# Altium footprint library display-lcd.PCBLIB: 16 footprints
Each footprint in its own frame and in the unit in brackets; x right, y up, seen from the top. Pads: shape width x height; smd on the part's side, far side on the other; paste and mask are expansions set on the pad; w line width, h text height; cw(c..) or ccw(c..) is an arc to the next point about the centre after c.
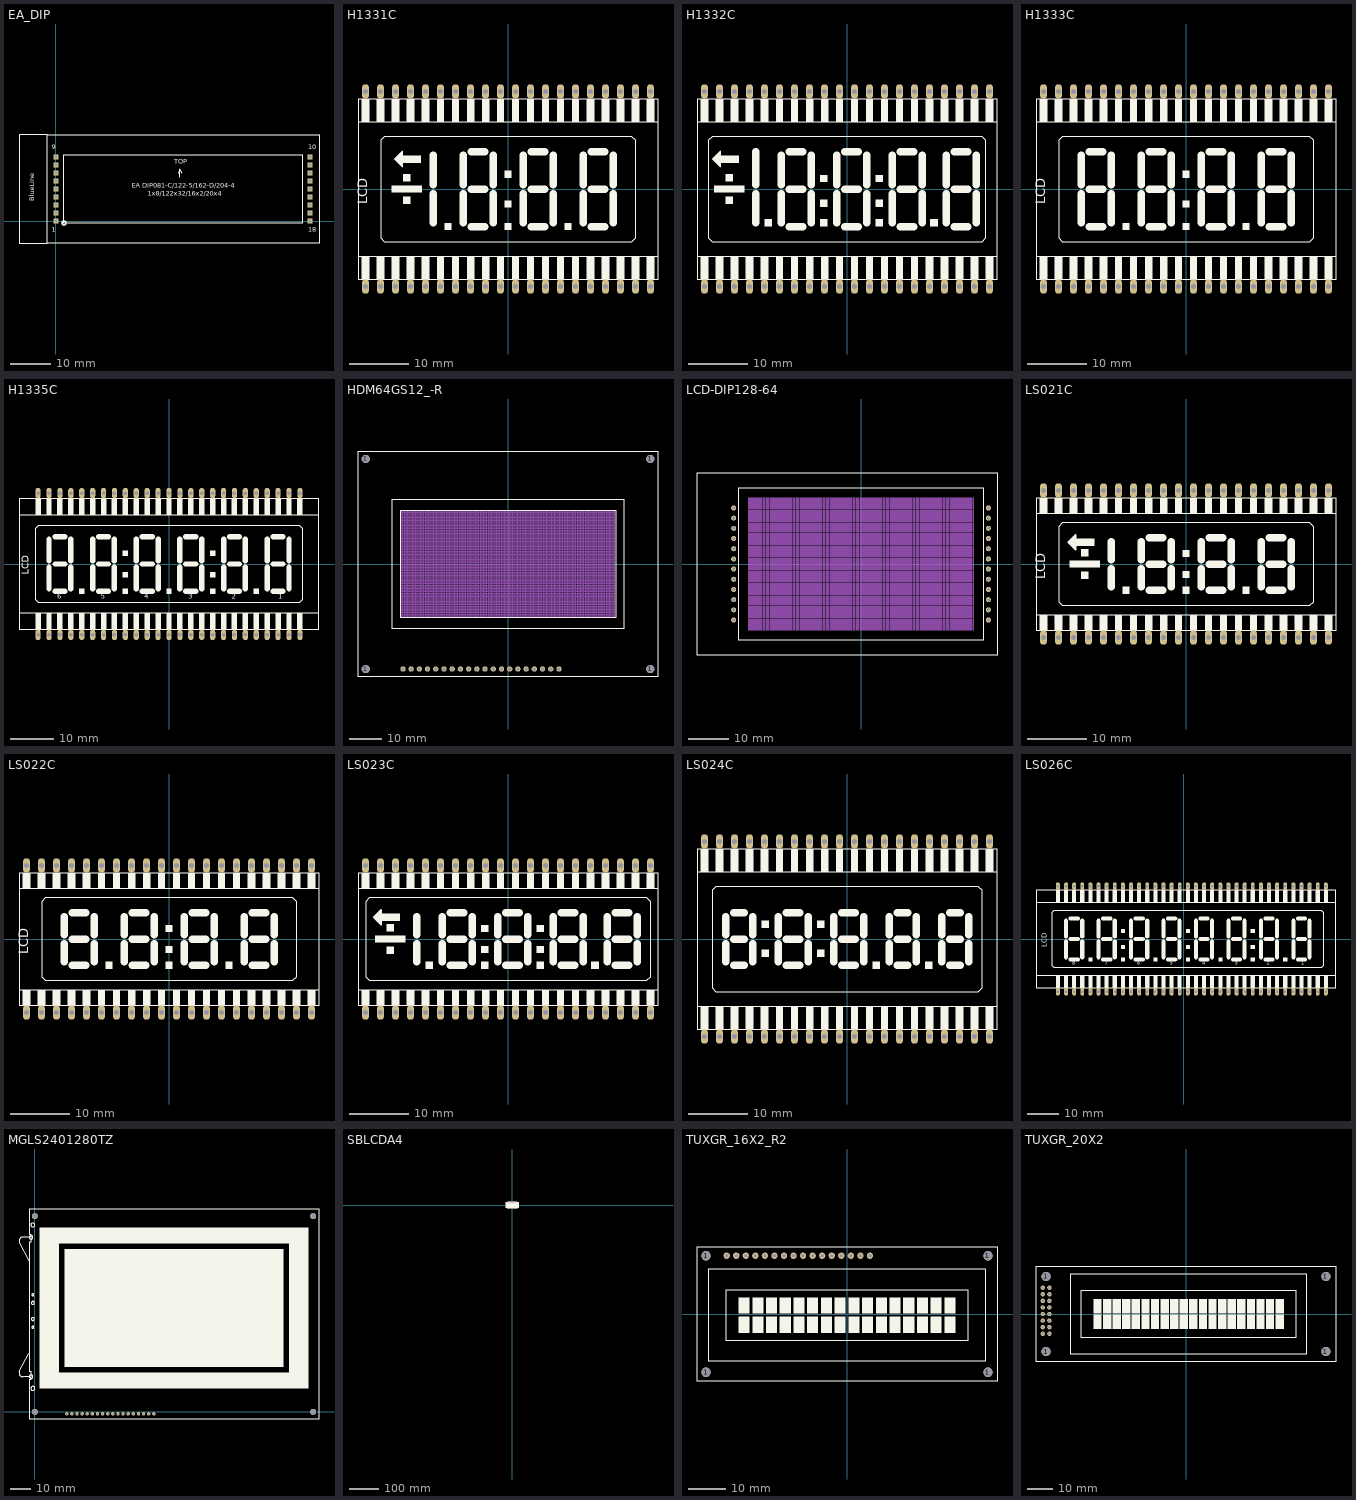
[diagram p0: the footprints below, top view; thin cyan lines are the x and y axes]

## EA_DIP [mil]
pads (18):
  rect 50x50 hole 32: 1(0,0) 2(0,78.74) 3(0,157.48) 4(0,236.22) 5(0,314.96) 6(0,393.7) 7(0,472.44) 8(0,551.18) 9(0,629.92) 10(2500,629.92) 11(2500,551.18) 12(2500,472.44) 13(2500,393.7) 14(2500,314.96) 15(2500,236.22) 16(2500,157.48) 17(2500,78.74) 18(2500,0)
Top Overlay:
  circle w16: c78.74,-19.69 r19.69
  lines w5: 1200.79,472.44 1220.47,511.81 ; 1220.47,433.07 1220.47,511.81 ; 1240.16,472.44 1220.47,511.81
  lines w10: -88.58,-216.54 -88.58,846.46 ; -88.58,-216.54 2588.58,-216.54 2588.58,846.46 -88.58,846.46 ; -88.58,-216.54 -364.17,-216.54 -364.17,846.46 -88.58,846.46 ; 78.74,-19.69 78.74,649.61 2421.26,649.61 2421.26,-19.69 78.74,-19.69
  text "EA DIP081-C/122-5/162-D/204-4" at 748.03,314.96 h77.5
  text "1x8/122x32/16x2/20x4" at 905.51,236.22 h77.5
  text "TOP" at 1161.42,551.18 h77.5
  text "1" at -39.37,-118.11 h77.5
  text "9" at -39.37,688.98 h77.5
  text "10" at 2480.32,688.98 h77.5
  text "18" at 2480.32,-118.11 h77.5
  text "BlueLine" at -196.85,196.85 h77.5

## H1331C [mil]
pads (40):
  oval 48x96 hole 32: 1(-950,-650) 2(-850,-650) 3(-750,-650) 4(-650,-650) 5(-550,-650) 6(-450,-650) 7(-350,-650) 8(-250,-650) 9(-150,-650) 10(-50,-650) 11(50,-650) 12(150,-650) 13(250,-650) 14(350,-650) 15(450,-650) 16(550,-650) 17(650,-650) 18(750,-650) 19(850,-650) 20(950,-650) 21(950,650) 22(850,650) 23(750,650) 24(650,650) 25(550,650) 26(450,650) 27(350,650) 28(250,650) 29(150,650) 30(50,650) 31(-50,650) 32(-150,650) 33(-250,650) 34(-350,650) 35(-450,650) 36(-550,650) 37(-650,650) 38(-750,650) 39(-850,650) 40(-950,650)
Top Overlay:
  rectangle: -975,-600 -925,-450
  rectangle: -875,-600 -825,-450
  rectangle: -775,-600 -725,-450
  rectangle: -675,-600 -625,-450
  rectangle: -575,-600 -525,-450
  rectangle: -475,-600 -425,-450
  rectangle: -375,-600 -325,-450
  rectangle: -275,-600 -225,-450
  rectangle: -175,-600 -125,-450
  rectangle: -75,-600 -25,-450
  rectangle: 25,-600 75,-450
  rectangle: 125,-600 175,-450
  rectangle: 225,-600 275,-450
  rectangle: 325,-600 375,-450
  rectangle: 425,-600 475,-450
  rectangle: 525,-600 575,-450
  rectangle: 625,-600 675,-450
  rectangle: 725,-600 775,-450
  rectangle: 825,-600 875,-450
  rectangle: 925,-600 975,-450
  rectangle: 925,450 975,600
  rectangle: 825,450 875,600
  rectangle: 725,450 775,600
  rectangle: 625,450 675,600
  rectangle: 525,450 575,600
  rectangle: 425,450 475,600
  rectangle: 325,450 375,600
  rectangle: 225,450 275,600
  rectangle: 125,450 175,600
  rectangle: 25,450 75,600
  rectangle: -75,450 -25,600
  rectangle: -175,450 -125,600
  rectangle: -275,450 -225,600
  rectangle: -375,450 -325,600
  rectangle: -475,450 -425,600
  rectangle: -575,450 -525,600
  rectangle: -675,450 -625,600
  rectangle: -775,450 -725,600
  rectangle: -875,450 -825,600
  rectangle: -975,450 -925,600
  rectangle: -775,-25 -575,25
  rectangle: -700,50 -650,100
  rectangle: -700,-100 -650,-50
  rectangle: -425,-275 -375,-225
  rectangle: -25,-275 25,-225
  rectangle: -25,-125 25,-75
  rectangle: -25,75 25,125
  rectangle: 375,-275 425,-225
  rectangle: -750,195 -730,205
  rectangle: -745,205 -730,210
  rectangle: -740,210 -730,215
  rectangle: -735,215 -730,220
  rectangle: -745,190 -730,195
  rectangle: -740,185 -730,190
  rectangle: -735,180 -730,185
  rectangle: -725,225 -705,235
  rectangle: -715,235 -705,240
  rectangle: -725,165 -705,175
  rectangle: -715,160 -705,165
  rectangle: -730,175 -580,225
  lines w6: -1000,-450 -1000,-600 1000,-600 1000,-450 ; -1000,-450 1000,-450 ; -1000,-450 -1000,450 ; -1000,450 -1000,600 1000,600 1000,450 ; -1000,450 1000,450 ; 1000,-450 1000,450 ; -850,-325 -850,325 -825,350 825,350 850,325 850,-325 825,-350 -825,-350 -850,-325
  lines w12: -755,200 -705,250 -705,150 -755,200
  lines w50: -500,-225 -500,-30 ; -500,30 -500,225 ; -300,-225 -300,-30 ; -300,30 -300,225 ; -245,-250 -155,-250 ; -245,0 -155,0 ; -245,250 -155,250 ; -100,-225 -100,-30 ; -100,30 -100,225 ; 100,-225 100,-30 ; 100,30 100,225 ; 155,-250 245,-250 ; 155,0 245,0 ; 155,250 245,250 ; 300,-225 300,-30 ; 300,30 300,225 ; 500,-225 500,-30 ; 500,30 500,225 ; 555,-250 645,-250 ; 555,0 645,0 ; 555,250 645,250 ; 700,-225 700,-30 ; 700,30 700,225
  text "LCD" at -915,-100 h108.5

## H1332C [mil]
pads (40):
  oval 48x96 hole 32: 1(-950,-650) 2(-850,-650) 3(-750,-650) 4(-650,-650) 5(-550,-650) 6(-450,-650) 7(-350,-650) 8(-250,-650) 9(-150,-650) 10(-50,-650) 11(50,-650) 12(150,-650) 13(250,-650) 14(350,-650) 15(450,-650) 16(550,-650) 17(650,-650) 18(750,-650) 19(850,-650) 20(950,-650) 21(950,650) 22(850,650) 23(750,650) 24(650,650) 25(550,650) 26(450,650) 27(350,650) 28(250,650) 29(150,650) 30(50,650) 31(-50,650) 32(-150,650) 33(-250,650) 34(-350,650) 35(-450,650) 36(-550,650) 37(-650,650) 38(-750,650) 39(-850,650) 40(-950,650)
Top Overlay:
  rectangle: -975,-600 -925,-450
  rectangle: -875,-600 -825,-450
  rectangle: -775,-600 -725,-450
  rectangle: -675,-600 -625,-450
  rectangle: -575,-600 -525,-450
  rectangle: -475,-600 -425,-450
  rectangle: -375,-600 -325,-450
  rectangle: -275,-600 -225,-450
  rectangle: -175,-600 -125,-450
  rectangle: -75,-600 -25,-450
  rectangle: 25,-600 75,-450
  rectangle: 125,-600 175,-450
  rectangle: 225,-600 275,-450
  rectangle: 325,-600 375,-450
  rectangle: 425,-600 475,-450
  rectangle: 525,-600 575,-450
  rectangle: 625,-600 675,-450
  rectangle: 725,-600 775,-450
  rectangle: 825,-600 875,-450
  rectangle: 925,-600 975,-450
  rectangle: 925,450 975,600
  rectangle: 825,450 875,600
  rectangle: 725,450 775,600
  rectangle: 625,450 675,600
  rectangle: 525,450 575,600
  rectangle: 425,450 475,600
  rectangle: 325,450 375,600
  rectangle: 225,450 275,600
  rectangle: 125,450 175,600
  rectangle: 25,450 75,600
  rectangle: -75,450 -25,600
  rectangle: -175,450 -125,600
  rectangle: -275,450 -225,600
  rectangle: -375,450 -325,600
  rectangle: -475,450 -425,600
  rectangle: -575,450 -525,600
  rectangle: -675,450 -625,600
  rectangle: -775,450 -725,600
  rectangle: -875,450 -825,600
  rectangle: -975,450 -925,600
  rectangle: -885,-25 -685,25
  rectangle: -810,50 -760,100
  rectangle: -810,-100 -760,-50
  rectangle: -550,-250 -500,-200
  rectangle: 190,-250 240,-200
  rectangle: 190,-120 240,-70
  rectangle: 190,45 240,95
  rectangle: 555,-250 605,-200
  rectangle: -890,195 -870,205
  rectangle: -885,205 -870,210
  rectangle: -880,210 -870,215
  rectangle: -875,215 -870,220
  rectangle: -885,190 -870,195
  rectangle: -880,185 -870,190
  rectangle: -875,180 -870,185
  rectangle: -865,225 -845,235
  rectangle: -855,235 -845,240
  rectangle: -865,165 -845,175
  rectangle: -855,160 -845,165
  rectangle: -870,175 -720,225
  rectangle: -180,-250 -130,-200
  rectangle: -180,-120 -130,-70
  rectangle: -180,45 -130,95
  lines w6: -1000,-450 -1000,-600 1000,-600 1000,-450 ; -1000,-450 1000,-450 ; -1000,-450 -1000,450 ; -1000,450 -1000,600 1000,600 1000,450 ; -1000,450 1000,450 ; 1000,-450 1000,450 ; -925,-325 -925,325 -900,350 900,350 925,325 925,-325 900,-350 -900,-350 -925,-325
  lines w12: -895,200 -845,250 -845,150 -895,200
  lines w50: -610,-225 -610,-30 ; -610,30 -610,250 ; -440,-225 -440,-30 ; -440,30 -440,225 ; -385,-250 -295,-250 ; -385,0 -295,0 ; -385,250 -295,250 ; -240,-225 -240,-30 ; -240,30 -240,225 ; -70,-225 -70,-30 ; -70,30 -70,225 ; -15,-250 75,-250 ; -15,0 75,0 ; -15,250 75,250 ; 130,-225 130,-30 ; 130,30 130,225 ; 300,-225 300,-30 ; 300,30 300,225 ; 355,-250 445,-250 ; 355,0 445,0 ; 355,250 445,250 ; 500,-225 500,-30 ; 500,30 500,225 ; 660,-225 660,-30 ; 660,30 660,225 ; 715,-250 805,-250 ; 715,0 805,0 ; 715,250 805,250 ; 860,-225 860,-30 ; 860,30 860,225

## H1333C [mil]
pads (40):
  oval 48x96 hole 32: 1(-950,-650) 2(-850,-650) 3(-750,-650) 4(-650,-650) 5(-550,-650) 6(-450,-650) 7(-350,-650) 8(-250,-650) 9(-150,-650) 10(-50,-650) 11(50,-650) 12(150,-650) 13(250,-650) 14(350,-650) 15(450,-650) 16(550,-650) 17(650,-650) 18(750,-650) 19(850,-650) 20(950,-650) 21(950,650) 22(850,650) 23(750,650) 24(650,650) 25(550,650) 26(450,650) 27(350,650) 28(250,650) 29(150,650) 30(50,650) 31(-50,650) 32(-150,650) 33(-250,650) 34(-350,650) 35(-450,650) 36(-550,650) 37(-650,650) 38(-750,650) 39(-850,650) 40(-950,650)
Top Overlay:
  rectangle: -975,-600 -925,-450
  rectangle: -875,-600 -825,-450
  rectangle: -775,-600 -725,-450
  rectangle: -675,-600 -625,-450
  rectangle: -575,-600 -525,-450
  rectangle: -475,-600 -425,-450
  rectangle: -375,-600 -325,-450
  rectangle: -275,-600 -225,-450
  rectangle: -175,-600 -125,-450
  rectangle: -75,-600 -25,-450
  rectangle: 25,-600 75,-450
  rectangle: 125,-600 175,-450
  rectangle: 225,-600 275,-450
  rectangle: 325,-600 375,-450
  rectangle: 425,-600 475,-450
  rectangle: 525,-600 575,-450
  rectangle: 625,-600 675,-450
  rectangle: 725,-600 775,-450
  rectangle: 825,-600 875,-450
  rectangle: 925,-600 975,-450
  rectangle: 925,450 975,600
  rectangle: 825,450 875,600
  rectangle: 725,450 775,600
  rectangle: 625,450 675,600
  rectangle: 525,450 575,600
  rectangle: 425,450 475,600
  rectangle: 325,450 375,600
  rectangle: 225,450 275,600
  rectangle: 125,450 175,600
  rectangle: 25,450 75,600
  rectangle: -75,450 -25,600
  rectangle: -175,450 -125,600
  rectangle: -275,450 -225,600
  rectangle: -375,450 -325,600
  rectangle: -475,450 -425,600
  rectangle: -575,450 -525,600
  rectangle: -675,450 -625,600
  rectangle: -775,450 -725,600
  rectangle: -875,450 -825,600
  rectangle: -975,450 -925,600
  rectangle: -425,-275 -375,-225
  rectangle: -25,-275 25,-225
  rectangle: -25,-125 25,-75
  rectangle: -25,75 25,125
  rectangle: 375,-275 425,-225
  lines w6: -1000,-450 -1000,-600 1000,-600 1000,-450 ; -1000,-450 1000,-450 ; -1000,-450 -1000,450 ; -1000,450 -1000,600 1000,600 1000,450 ; -1000,450 1000,450 ; 1000,-450 1000,450 ; -850,-325 -850,325 -825,350 825,350 850,325 850,-325 825,-350 -825,-350 -850,-325
  lines w50: -700,-225 -700,-30 ; -700,30 -700,225 ; -645,-250 -555,-250 ; -645,0 -555,0 ; -645,250 -555,250 ; -500,-225 -500,-30 ; -500,30 -500,225 ; -300,-225 -300,-30 ; -300,30 -300,225 ; -245,-250 -155,-250 ; -245,0 -155,0 ; -245,250 -155,250 ; -100,-225 -100,-30 ; -100,30 -100,225 ; 100,-225 100,-30 ; 100,30 100,225 ; 155,-250 245,-250 ; 155,0 245,0 ; 155,250 245,250 ; 300,-225 300,-30 ; 300,30 300,225 ; 500,-225 500,-30 ; 500,30 500,225 ; 555,-250 645,-250 ; 555,0 645,0 ; 555,250 645,250 ; 700,-225 700,-30 ; 700,30 700,225
  text "LCD" at -915,-100 h108.5

## H1335C [mil]
pads (50):
  oval 48x96 hole 32: 1(-1200,-650) 2(-1100,-650) 3(-1000,-650) 4(-900,-650) 5(-800,-650) 6(-700,-650) 7(-600,-650) 8(-500,-650) 9(-400,-650) 10(-300,-650) 11(-200,-650) 12(-100,-650) 13(0,-650) 14(100,-650) 15(200,-650) 16(300,-650) 17(400,-650) 18(500,-650) 19(600,-650) 20(700,-650) 21(800,-650) 22(900,-650) 23(1000,-650) 24(1100,-650) 25(1200,-650) 26(1200,650) 27(1100,650) 28(1000,650) 29(900,650) 30(800,650) 31(700,650) 32(600,650) 33(500,650) 34(400,650) 35(300,650) 36(200,650) 37(100,650) 38(0,650) 39(-100,650) 40(-200,650) 41(-300,650) 42(-400,650) 43(-500,650) 44(-600,650) 45(-700,650) 46(-800,650) 47(-900,650) 48(-1000,650) 49(-1100,650) 50(-1200,650)
Top Overlay:
  rectangle: -1225,-600 -1175,-450
  rectangle: -1125,-600 -1075,-450
  rectangle: -1025,-600 -975,-450
  rectangle: -925,-600 -875,-450
  rectangle: -825,-600 -775,-450
  rectangle: -725,-600 -675,-450
  rectangle: -625,-600 -575,-450
  rectangle: -525,-600 -475,-450
  rectangle: 375,-600 425,-450
  rectangle: 475,-600 525,-450
  rectangle: 575,-600 625,-450
  rectangle: 675,-600 725,-450
  rectangle: 775,-600 825,-450
  rectangle: 875,-600 925,-450
  rectangle: 975,-600 1025,-450
  rectangle: 1075,-600 1125,-450
  rectangle: 1175,-600 1225,-450
  rectangle: 1175,450 1225,600
  rectangle: 1075,450 1125,600
  rectangle: 975,450 1025,600
  rectangle: 875,450 925,600
  rectangle: 775,450 825,600
  rectangle: 675,450 725,600
  rectangle: 575,450 625,600
  rectangle: 475,450 525,600
  rectangle: 375,450 425,600
  rectangle: -525,450 -475,600
  rectangle: -625,450 -575,600
  rectangle: -725,450 -675,600
  rectangle: -825,450 -775,600
  rectangle: -925,450 -875,600
  rectangle: -1025,450 -975,600
  rectangle: -1125,450 -1075,600
  rectangle: -1225,450 -1175,600
  rectangle: -825,-275 -775,-225
  rectangle: 375,-275 425,-225
  rectangle: 375,-125 425,-75
  rectangle: 375,75 425,125
  rectangle: 775,-275 825,-225
  rectangle: -425,-600 -375,-450
  rectangle: -325,-600 -275,-450
  rectangle: -225,-600 -175,-450
  rectangle: -125,-600 -75,-450
  rectangle: -25,-600 25,-450
  rectangle: 75,-600 125,-450
  rectangle: 175,-600 225,-450
  rectangle: 275,-600 325,-450
  rectangle: 275,450 325,600
  rectangle: 175,450 225,600
  rectangle: 75,450 125,600
  rectangle: -25,450 25,600
  rectangle: -125,450 -75,600
  rectangle: -225,450 -175,600
  rectangle: -325,450 -275,600
  rectangle: -425,450 -375,600
  rectangle: -425,-275 -375,-225
  rectangle: -425,-125 -375,-75
  rectangle: -425,75 -375,125
  rectangle: -25,-275 25,-225
  lines w6: -1375,-450 -1375,-600 1375,-600 1375,-450 ; -1375,-450 1375,-450 ; -1375,-450 -1375,450 ; -1375,450 -1375,600 1375,600 1375,450 ; -1375,450 1375,450 ; 1375,-450 1375,450 ; -1225,-325 -1225,325 -1200,350 1200,350 1225,325 1225,-325 1200,-350 -1200,-350 -1225,-325
  lines w50: -1100,-225 -1100,-30 ; -1100,30 -1100,225 ; -1045,-250 -955,-250 ; -1045,0 -955,0 ; -1045,250 -955,250 ; -900,-225 -900,-30 ; -900,30 -900,225 ; -700,-225 -700,-30 ; -700,30 -700,225 ; -645,-250 -555,-250 ; -645,0 -555,0 ; -645,250 -555,250 ; -500,-225 -500,-30 ; -500,30 -500,225 ; -300,-225 -300,-30 ; -300,30 -300,225 ; -245,-250 -155,-250 ; -245,0 -155,0 ; -245,250 -155,250 ; -100,-225 -100,-30 ; -100,30 -100,225 ; 100,-225 100,-30 ; 100,30 100,225 ; 155,-250 245,-250 ; 155,0 245,0 ; 155,250 245,250 ; 300,-225 300,-30 ; 300,30 300,225 ; 500,-225 500,-30 ; 500,30 500,225 ; 555,-250 645,-250 ; 555,0 645,0 ; 555,250 645,250 ; 700,-225 700,-30 ; 700,30 700,225 ; 900,-225 900,-30 ; 900,30 900,225 ; 955,-250 1045,-250 ; 955,0 1045,0 ; 955,250 1045,250 ; 1100,-225 1100,-30 ; 1100,30 1100,225
  text "LCD" at -1265,-100 h108.5
  text "6" at -1025,-335 h77.5
  text "5" at -625,-335 h77.5
  text "4" at -225,-335 h77.5
  text "3" at 175,-335 h77.5
  text "2" at 575,-335 h77.5
  text "1" at 1000,-335 h77.5

## HDM64GS12_-R [mil]
pads (24):
  round 98.43 hole 98.43: 1(-1732.28,-1279.53) 1(-1732.28,1279.53) 1(1732.28,-1279.53) 1(1732.28,1279.53)
  round 64.97 hole 43.31: 1(620.47,-1279.53) 2(520.47,-1279.53) 3(420.47,-1279.53) 4(320.47,-1279.53) 5(220.47,-1279.53) 6(120.47,-1279.53) 7(20.47,-1279.53) 8(-79.53,-1279.53) 9(-179.53,-1279.53) 10(-279.53,-1279.53) 11(-379.53,-1279.53) 12(-479.53,-1279.53) 13(-579.53,-1279.53) 14(-679.53,-1279.53) 15(-779.53,-1279.53) 16(-879.53,-1279.53) 17(-979.53,-1279.53) 18(-1079.53,-1279.53) 19(-1179.53,-1279.53) 20(-1279.53,-1279.53)
Top Overlay:
  lines w1.57: -1417.32,-787.4 1417.32,-787.4 1417.32,787.4 -1417.32,787.4 -1417.32,-787.4 ; -1309.45,-654.33 -1309.45,654.33 1309.45,654.33 1309.45,-654.33 -1309.45,-654.33
  lines w8: -1826.77,-1374.02 1826.77,-1374.02 1826.77,1374.02 -1826.77,1374.02 -1826.77,-1374.02
Mechanical 16:
  drawing of 200 lines, arcs and shapes, not listed

## LCD-DIP128-64 [mil]
pads (24):
  round 50 hole 31.5: 1(-1250,-550) 2(-1250,-450) 3(-1250,-350) 4(-1250,-250) 5(-1250,-150) 6(-1250,-50) 7(-1250,50) 8(-1250,150) 9(-1250,250) 10(-1250,350) 11(-1250,450) 12(-1250,550) 13(1250,550) 14(1250,450) 15(1250,350) 16(1250,250) 17(1250,150) 18(1250,50) 19(1250,-50) 20(1250,-150) 21(1250,-250) 22(1250,-350) 23(1250,-450) 24(1250,-550)
Top Overlay:
  lines w0.08: -1200.79,-748.03 1200.79,-748.03 1200.79,748.03 -1200.79,748.03 -1200.79,-748.03
  lines w8: -1610.24,-897.64 1334.65,-897.64 1334.65,897.64 -1610.24,897.64 -1610.24,-897.64
Mechanical 16:
  drawing of 8192 lines, arcs and shapes, not listed

## LS021C [mil]
pads (40):
  oval 48x96 hole 32: 1(-950,-490) 2(-850,-490) 3(-750,-490) 4(-650,-490) 5(-550,-490) 6(-450,-490) 7(-350,-490) 8(-250,-490) 9(-150,-490) 10(-50,-490) 11(50,-490) 12(150,-490) 13(250,-490) 14(350,-490) 15(450,-490) 16(550,-490) 17(650,-490) 18(750,-490) 19(850,-490) 20(950,-490) 21(950,490) 22(850,490) 23(750,490) 24(650,490) 25(550,490) 26(450,490) 27(350,490) 28(250,490) 29(150,490) 30(50,490) 31(-50,490) 32(-150,490) 33(-250,490) 34(-350,490) 35(-450,490) 36(-550,490) 37(-650,490) 38(-750,490) 39(-850,490) 40(-950,490)
Top Overlay:
  rectangle: -775,-25 -575,25
  rectangle: -700,50 -650,100
  rectangle: -700,-100 -650,-50
  rectangle: -425,-200 -375,-150
  rectangle: -25,-200 25,-150
  rectangle: -25,-95 25,-45
  rectangle: -25,45 25,95
  rectangle: 375,-200 425,-150
  rectangle: -780,140 -760,150
  rectangle: -775,150 -760,155
  rectangle: -770,155 -760,160
  rectangle: -765,160 -760,165
  rectangle: -775,135 -760,140
  rectangle: -770,130 -760,135
  rectangle: -765,125 -760,130
  rectangle: -755,170 -735,180
  rectangle: -745,180 -735,185
  rectangle: -755,110 -735,120
  rectangle: -745,105 -735,110
  rectangle: -760,120 -610,170
  rectangle: -975,-440 -925,-340
  rectangle: -875,-440 -825,-340
  rectangle: -775,-440 -725,-340
  rectangle: -675,-440 -625,-340
  rectangle: -575,-440 -525,-340
  rectangle: -475,-440 -425,-340
  rectangle: -375,-440 -325,-340
  rectangle: -275,-440 -225,-340
  rectangle: -175,-440 -125,-340
  rectangle: -75,-440 -25,-340
  rectangle: 25,-440 75,-340
  rectangle: 125,-440 175,-340
  rectangle: 225,-440 275,-340
  rectangle: 325,-440 375,-340
  rectangle: 425,-440 475,-340
  rectangle: 525,-440 575,-340
  rectangle: 625,-440 675,-340
  rectangle: 725,-440 775,-340
  rectangle: 825,-440 875,-340
  rectangle: 925,-440 975,-340
  rectangle: 925,340 975,440
  rectangle: 825,340 875,440
  rectangle: 725,340 775,440
  rectangle: 625,340 675,440
  rectangle: 525,340 575,440
  rectangle: 425,340 475,440
  rectangle: 325,340 375,440
  rectangle: 225,340 275,440
  rectangle: 125,340 175,440
  rectangle: 25,340 75,440
  rectangle: -75,340 -25,440
  rectangle: -175,340 -125,440
  rectangle: -275,340 -225,440
  rectangle: -375,340 -325,440
  rectangle: -475,340 -425,440
  rectangle: -575,340 -525,440
  rectangle: -675,340 -625,440
  rectangle: -775,340 -725,440
  rectangle: -875,340 -825,440
  rectangle: -975,340 -925,440
  lines w6: -1000,-340 -1000,-440 1000,-440 1000,-340 ; -1000,-340 1000,-340 ; -1000,-340 -1000,340 ; -1000,340 -1000,440 1000,440 1000,340 ; -1000,340 1000,340 ; 1000,-340 1000,340 ; -850,-250 -850,250 -825,275 825,275 850,250 850,-250 825,-275 -825,-275 -850,-250
  lines w12: -785,145 -735,195 -735,95 -785,145
  lines w50: -500,-150 -500,-30 ; -500,30 -500,150 ; -300,-150 -300,-30 ; -300,30 -300,150 ; -245,-175 -155,-175 ; -245,0 -155,0 ; -245,175 -155,175 ; -100,-150 -100,-30 ; -100,30 -100,150 ; 100,-150 100,-30 ; 100,30 100,150 ; 155,-175 245,-175 ; 155,0 245,0 ; 155,175 245,175 ; 300,-150 300,-30 ; 300,30 300,150 ; 500,-150 500,-30 ; 500,30 500,150 ; 555,-175 645,-175 ; 555,0 645,0 ; 555,175 645,175 ; 700,-150 700,-30 ; 700,30 700,150
  text "LCD" at -915,-100 h108.5

## LS022C [mil]
pads (40):
  oval 48x96 hole 32: 1(-950,-490) 2(-850,-490) 3(-750,-490) 4(-650,-490) 5(-550,-490) 6(-450,-490) 7(-350,-490) 8(-250,-490) 9(-150,-490) 10(-50,-490) 11(50,-490) 12(150,-490) 13(250,-490) 14(350,-490) 15(450,-490) 16(550,-490) 17(650,-490) 18(750,-490) 19(850,-490) 20(950,-490) 21(950,490) 22(850,490) 23(750,490) 24(650,490) 25(550,490) 26(450,490) 27(350,490) 28(250,490) 29(150,490) 30(50,490) 31(-50,490) 32(-150,490) 33(-250,490) 34(-350,490) 35(-450,490) 36(-550,490) 37(-650,490) 38(-750,490) 39(-850,490) 40(-950,490)
Top Overlay:
  rectangle: -425,-200 -375,-150
  rectangle: -25,-200 25,-150
  rectangle: -25,-95 25,-45
  rectangle: -25,45 25,95
  rectangle: 375,-200 425,-150
  rectangle: -975,-440 -925,-340
  rectangle: -875,-440 -825,-340
  rectangle: -775,-440 -725,-340
  rectangle: -675,-440 -625,-340
  rectangle: -575,-440 -525,-340
  rectangle: -475,-440 -425,-340
  rectangle: -375,-440 -325,-340
  rectangle: -275,-440 -225,-340
  rectangle: -175,-440 -125,-340
  rectangle: -75,-440 -25,-340
  rectangle: 25,-440 75,-340
  rectangle: 125,-440 175,-340
  rectangle: 225,-440 275,-340
  rectangle: 325,-440 375,-340
  rectangle: 425,-440 475,-340
  rectangle: 525,-440 575,-340
  rectangle: 625,-440 675,-340
  rectangle: 725,-440 775,-340
  rectangle: 825,-440 875,-340
  rectangle: 925,-440 975,-340
  rectangle: 925,340 975,440
  rectangle: 825,340 875,440
  rectangle: 725,340 775,440
  rectangle: 625,340 675,440
  rectangle: 525,340 575,440
  rectangle: 425,340 475,440
  rectangle: 325,340 375,440
  rectangle: 225,340 275,440
  rectangle: 125,340 175,440
  rectangle: 25,340 75,440
  rectangle: -75,340 -25,440
  rectangle: -175,340 -125,440
  rectangle: -275,340 -225,440
  rectangle: -375,340 -325,440
  rectangle: -475,340 -425,440
  rectangle: -575,340 -525,440
  rectangle: -675,340 -625,440
  rectangle: -775,340 -725,440
  rectangle: -875,340 -825,440
  rectangle: -975,340 -925,440
  lines w6: -1000,-340 -1000,-440 1000,-440 1000,-340 ; -1000,-340 1000,-340 ; -1000,-340 -1000,340 ; -1000,340 -1000,440 1000,440 1000,340 ; -1000,340 1000,340 ; 1000,-340 1000,340 ; -850,-250 -850,250 -825,275 825,275 850,250 850,-250 825,-275 -825,-275 -850,-250
  lines w50: -700,-150 -700,-30 ; -700,30 -700,150 ; -645,-175 -555,-175 ; -645,0 -555,0 ; -645,175 -555,175 ; -500,-150 -500,-30 ; -500,30 -500,150 ; -300,-150 -300,-30 ; -300,30 -300,150 ; -245,-175 -155,-175 ; -245,0 -155,0 ; -245,175 -155,175 ; -100,-150 -100,-30 ; -100,30 -100,150 ; 100,-150 100,-30 ; 100,30 100,150 ; 155,-175 245,-175 ; 155,0 245,0 ; 155,175 245,175 ; 300,-150 300,-30 ; 300,30 300,150 ; 500,-150 500,-30 ; 500,30 500,150 ; 555,-175 645,-175 ; 555,0 645,0 ; 555,175 645,175 ; 700,-150 700,-30 ; 700,30 700,150
  text "LCD" at -915,-100 h108.5

## LS023C [mil]
pads (40):
  oval 48x96 hole 32: 1(-950,-490) 2(-850,-490) 3(-750,-490) 4(-650,-490) 5(-550,-490) 6(-450,-490) 7(-350,-490) 8(-250,-490) 9(-150,-490) 10(-50,-490) 11(50,-490) 12(150,-490) 13(250,-490) 14(350,-490) 15(450,-490) 16(550,-490) 17(650,-490) 18(750,-490) 19(850,-490) 20(950,-490) 21(950,490) 22(850,490) 23(750,490) 24(650,490) 25(550,490) 26(450,490) 27(350,490) 28(250,490) 29(150,490) 30(50,490) 31(-50,490) 32(-150,490) 33(-250,490) 34(-350,490) 35(-450,490) 36(-550,490) 37(-650,490) 38(-750,490) 39(-850,490) 40(-950,490)
Top Overlay:
  rectangle: -885,-25 -685,25
  rectangle: -810,50 -760,100
  rectangle: -810,-100 -760,-50
  rectangle: -550,-200 -500,-150
  rectangle: 190,-200 240,-150
  rectangle: 190,-95 240,-45
  rectangle: 190,45 240,95
  rectangle: 555,-200 605,-150
  rectangle: -890,140 -870,150
  rectangle: -885,150 -870,155
  rectangle: -880,155 -870,160
  rectangle: -875,160 -870,165
  rectangle: -885,135 -870,140
  rectangle: -880,130 -870,135
  rectangle: -875,125 -870,130
  rectangle: -865,170 -845,180
  rectangle: -855,180 -845,185
  rectangle: -865,110 -845,120
  rectangle: -855,105 -845,110
  rectangle: -870,120 -720,170
  rectangle: -975,-440 -925,-340
  rectangle: -875,-440 -825,-340
  rectangle: -775,-440 -725,-340
  rectangle: -675,-440 -625,-340
  rectangle: -575,-440 -525,-340
  rectangle: -475,-440 -425,-340
  rectangle: -375,-440 -325,-340
  rectangle: -275,-440 -225,-340
  rectangle: -175,-440 -125,-340
  rectangle: -75,-440 -25,-340
  rectangle: 25,-440 75,-340
  rectangle: 125,-440 175,-340
  rectangle: 225,-440 275,-340
  rectangle: 325,-440 375,-340
  rectangle: 425,-440 475,-340
  rectangle: 525,-440 575,-340
  rectangle: 625,-440 675,-340
  rectangle: 725,-440 775,-340
  rectangle: 825,-440 875,-340
  rectangle: 925,-440 975,-340
  rectangle: 925,340 975,440
  rectangle: 825,340 875,440
  rectangle: 725,340 775,440
  rectangle: 625,340 675,440
  rectangle: 525,340 575,440
  rectangle: 425,340 475,440
  rectangle: 325,340 375,440
  rectangle: 225,340 275,440
  rectangle: 125,340 175,440
  rectangle: 25,340 75,440
  rectangle: -75,340 -25,440
  rectangle: -175,340 -125,440
  rectangle: -275,340 -225,440
  rectangle: -375,340 -325,440
  rectangle: -475,340 -425,440
  rectangle: -575,340 -525,440
  rectangle: -675,340 -625,440
  rectangle: -775,340 -725,440
  rectangle: -875,340 -825,440
  rectangle: -975,340 -925,440
  rectangle: -180,-200 -130,-150
  rectangle: -180,-95 -130,-45
  rectangle: -180,45 -130,95
  lines w6: -1000,-340 -1000,-440 1000,-440 1000,-340 ; -1000,-340 1000,-340 ; -1000,-340 -1000,340 ; -1000,340 -1000,440 1000,440 1000,340 ; -1000,340 1000,340 ; 1000,-340 1000,340 ; -950,-250 -950,250 -925,275 925,275 950,250 950,-250 925,-275 -925,-275 -950,-250
  lines w12: -895,145 -845,195 -845,95 -895,145
  lines w50: -610,-150 -610,-30 ; -610,30 -610,150 ; -440,-150 -440,-30 ; -440,30 -440,150 ; -385,-175 -295,-175 ; -385,0 -295,0 ; -385,175 -295,175 ; -240,-150 -240,-30 ; -240,30 -240,150 ; -70,-150 -70,-30 ; -70,30 -70,150 ; -15,-175 75,-175 ; -15,0 75,0 ; -15,175 75,175 ; 130,-150 130,-30 ; 130,30 130,150 ; 300,-150 300,-30 ; 300,30 300,150 ; 355,-175 445,-175 ; 355,0 445,0 ; 355,175 445,175 ; 500,-150 500,-30 ; 500,30 500,150 ; 660,-150 660,-30 ; 660,30 660,150 ; 715,-175 805,-175 ; 715,0 805,0 ; 715,175 805,175 ; 860,-150 860,-30 ; 860,30 860,150

## LS024C [mil]
pads (40):
  oval 48x96 hole 32: 1(-950,-650) 2(-850,-650) 3(-750,-650) 4(-650,-650) 5(-550,-650) 6(-450,-650) 7(-350,-650) 8(-250,-650) 9(-150,-650) 10(-50,-650) 11(50,-650) 12(150,-650) 13(250,-650) 14(350,-650) 15(450,-650) 16(550,-650) 17(650,-650) 18(750,-650) 19(850,-650) 20(950,-650) 21(950,650) 22(850,650) 23(750,650) 24(650,650) 25(550,650) 26(450,650) 27(350,650) 28(250,650) 29(150,650) 30(50,650) 31(-50,650) 32(-150,650) 33(-250,650) 34(-350,650) 35(-450,650) 36(-550,650) 37(-650,650) 38(-750,650) 39(-850,650) 40(-950,650)
Top Overlay:
  rectangle: -975,-600 -925,-450
  rectangle: -875,-600 -825,-450
  rectangle: -775,-600 -725,-450
  rectangle: -675,-600 -625,-450
  rectangle: -575,-600 -525,-450
  rectangle: -475,-600 -425,-450
  rectangle: -375,-600 -325,-450
  rectangle: -275,-600 -225,-450
  rectangle: -175,-600 -125,-450
  rectangle: -75,-600 -25,-450
  rectangle: 25,-600 75,-450
  rectangle: 125,-600 175,-450
  rectangle: 225,-600 275,-450
  rectangle: 325,-600 375,-450
  rectangle: 425,-600 475,-450
  rectangle: 525,-600 575,-450
  rectangle: 625,-600 675,-450
  rectangle: 725,-600 775,-450
  rectangle: 825,-600 875,-450
  rectangle: 925,-600 975,-450
  rectangle: 925,450 975,600
  rectangle: 825,450 875,600
  rectangle: 725,450 775,600
  rectangle: 625,450 675,600
  rectangle: 525,450 575,600
  rectangle: 425,450 475,600
  rectangle: 325,450 375,600
  rectangle: 225,450 275,600
  rectangle: 125,450 175,600
  rectangle: 25,450 75,600
  rectangle: -75,450 -25,600
  rectangle: -175,450 -125,600
  rectangle: -275,450 -225,600
  rectangle: -375,450 -325,600
  rectangle: -475,450 -425,600
  rectangle: -575,450 -525,600
  rectangle: -675,450 -625,600
  rectangle: -775,450 -725,600
  rectangle: -875,450 -825,600
  rectangle: -975,450 -925,600
  rectangle: 170,-200 220,-150
  rectangle: -200,-120 -150,-70
  rectangle: -200,75 -150,125
  rectangle: 520,-200 570,-150
  rectangle: -570,-120 -520,-70
  rectangle: -570,75 -520,125
  lines w6: -1000,-450 -1000,-600 1000,-600 1000,-450 ; -1000,-450 1000,-450 ; -1000,-450 -1000,450 ; -1000,450 -1000,600 1000,600 1000,450 ; -1000,450 1000,450 ; 1000,-450 1000,450 ; -900,-325 -900,325 -875,350 875,350 900,325 900,-325 875,-350 -875,-350 -900,-325
  lines w50: -810,-150 -810,-30 ; -810,30 -810,150 ; -755,-175 -685,-175 ; -755,0 -685,0 ; -755,175 -685,175 ; -630,-150 -630,-30 ; -630,30 -630,150 ; -460,-150 -460,-30 ; -460,30 -460,150 ; -405,-175 -315,-175 ; -405,0 -315,0 ; -405,175 -315,175 ; -260,-150 -260,-30 ; -260,30 -260,150 ; -90,-150 -90,-30 ; -90,30 -90,150 ; -35,-175 55,-175 ; -35,0 55,0 ; -35,175 55,175 ; 110,-150 110,-30 ; 110,30 110,150 ; 280,-150 280,-30 ; 280,30 280,150 ; 335,-175 405,-175 ; 335,0 405,0 ; 335,175 405,175 ; 460,-150 460,-30 ; 460,30 460,150 ; 630,-150 630,-30 ; 630,30 630,150 ; 685,-175 755,-175 ; 685,0 755,0 ; 685,175 755,175 ; 810,-150 810,-30 ; 810,30 810,150

## LS026C [mil]
pads (68):
  oval 48x96 hole 32: 1(-1550,-650) 2(-1450,-650) 3(-1350,-650) 4(-1250,-650) 5(-1150,-650) 6(-1050,-650) 7(-950,-650) 8(-850,-650) 9(-750,-650) 10(-650,-650) 11(-550,-650) 12(-450,-650) 13(-350,-650) 14(-250,-650) 15(-150,-650) 16(-50,-650) 17(50,-650) 18(150,-650) 19(250,-650) 20(350,-650) 21(450,-650) 22(550,-650) 23(650,-650) 24(750,-650) 25(850,-650) 26(950,-650) 27(1050,-650) 28(1150,-650) 29(1250,-650) 30(1350,-650) 31(1450,-650) 32(1550,-650) 33(1650,-650) 34(1750,-650) 35(1750,650) 36(1650,650) 37(1550,650) 38(1450,650) 39(1350,650) 40(1250,650) 41(1150,650) 42(1050,650) 43(950,650) 44(850,650) 45(750,650) 46(650,650) 47(550,650) 48(450,650) 49(350,650) 50(250,650) 51(150,650) 52(50,650) 53(-50,650) 54(-150,650) 55(-250,650) 56(-350,650) 57(-450,650) 58(-550,650) 59(-650,650) 60(-750,650) 61(-850,650) 62(-950,650) 63(-1050,650) 64(-1150,650) 65(-1250,650) 66(-1350,650) 67(-1450,650) 68(-1550,650)
Top Overlay:
  drawing of 155 lines, arcs and shapes, not listed
  text "LCD" at -1665,-100 h108.5
  text "6" at -575,-335 h77.5
  text "5" at -175,-335 h77.5
  text "4" at 225,-335 h77.5
  text "3" at 625,-335 h77.5
  text "2" at 1025,-335 h77.5
  text "7" at -975,-335 h77.5
  text "8" at -1375,-335 h77.5
  text "1" at 1450,-335 h77.5

## MGLS2401280TZ [mm]
pads (22):
  round 3 hole 3: 1(0,0) 1(0,97) 1(138,0) 1(138,97)
  round 1.676 hole 1: 1(15.8,-1) 2(18.34,-1) 3(20.88,-1) 4(23.42,-1) 5(25.96,-1) 6(28.5,-1) 7(31.04,-1) 8(33.58,-1) 9(36.12,-1) 10(38.66,-1) 11(41.2,-1) 12(43.74,-1) 13(46.28,-1) 14(48.82,-1) 15(51.36,-1) 16(53.9,-1) 17(56.44,-1) 18(58.98,-1)
Top Overlay:
  drawing of 411 lines, arcs and shapes, not listed

## SBLCDA4 [mil]
pads (26):
  round 56 hole 35.43: 1(-650,-450) 2(-550,-450) 3(-450,-450) 4(-350,-450) 5(-250,-450) 6(-150,-450) 7(-50,-450) 8(50,-450) 9(150,-450) 10(250,-450) 11(350,-450) 12(450,-450) 13(550,-450) 14(650,-450) 15(550,450) 16(450,450) 17(350,450) 18(250,450) 19(150,450) 20(50,450) 21(-50,450) 22(-150,450) 23(-250,450) 24(-350,450) 25(-450,450) 26(-550,450)
Top Overlay:
  drawing of 712 lines, arcs and shapes, not listed

## TUXGR_16X2_R2 [mil]
pads (20):
  round 98.43 hole 98.43: 1(-1476.38,-610.24) 1(-1476.38,610.24) 1(1476.38,-610.24) 1(1476.38,610.24)
  round 66 hole 39.37: 1(-1259.84,610.24) 2(-1159.84,610.24) 3(-1059.84,610.24) 4(-959.84,610.24) 5(-859.84,610.24) 6(-759.84,610.24) 7(-659.84,610.24) 8(-559.84,610.24) 9(-459.84,610.24) 10(-359.84,610.24) 11(-259.84,610.24) 12(-159.84,610.24) 13(-59.84,610.24) 14(40.16,610.24) 15(140.16,610.24) 16(240.16,610.24)
Top Overlay:
  rectangle: -1135.83,3.94 -1019.69,175.2
  rectangle: -1135.83,-198.82 -1019.69,-27.56
  rectangle: -992.13,3.94 -875.98,175.2
  rectangle: -992.13,-198.82 -875.98,-27.56
  rectangle: -848.43,3.94 -732.28,175.2
  rectangle: -848.43,-198.82 -732.28,-27.56
  rectangle: -704.72,3.94 -588.58,175.2
  rectangle: -704.72,-198.82 -588.58,-27.56
  rectangle: -561.02,3.94 -444.88,175.2
  rectangle: -561.02,-198.82 -444.88,-27.56
  rectangle: -417.32,3.94 -301.18,175.2
  rectangle: -417.32,-198.82 -301.18,-27.56
  rectangle: -273.62,3.94 -157.48,175.2
  rectangle: -273.62,-198.82 -157.48,-27.56
  rectangle: -129.92,3.94 -13.78,175.2
  rectangle: -129.92,-198.82 -13.78,-27.56
  rectangle: 13.78,3.94 129.92,175.2
  rectangle: 13.78,-198.82 129.92,-27.56
  rectangle: 157.48,3.94 273.62,175.2
  rectangle: 157.48,-198.82 273.62,-27.56
  rectangle: 301.18,3.94 417.32,175.2
  rectangle: 301.18,-198.82 417.32,-27.56
  rectangle: 444.88,3.94 561.02,175.2
  rectangle: 444.88,-198.82 561.02,-27.56
  rectangle: 588.58,3.94 704.72,175.2
  rectangle: 588.58,-198.82 704.72,-27.56
  rectangle: 732.28,3.94 848.43,175.2
  rectangle: 732.28,-198.82 848.43,-27.56
  rectangle: 875.98,3.94 992.13,175.2
  rectangle: 875.98,-198.82 992.13,-27.56
  rectangle: 1019.69,3.94 1135.83,175.2
  rectangle: 1019.69,-198.82 1135.83,-27.56
  lines w8: -1570.87,-704.72 1570.87,-704.72 1570.87,704.72 -1570.87,704.72 -1570.87,-704.72 ; -1446.85,-496.06 1446.85,-496.06 1446.85,472.44 -1446.85,472.44 -1446.85,-496.06 ; -1265.75,-279.53 1265.75,-279.53 1265.75,255.91 -1265.75,255.91 -1265.75,-279.53

## TUXGR_20X2 [mil]
pads (20):
  round 137.8 hole 137.8: 1(-2125.98,-570.87) 1(-2125.98,570.87) 1(2125.98,-570.87) 1(2125.98,570.87)
  round 66 hole 39.37: 1(-2075.98,-300) 2(-2175.98,-300) 3(-2075.98,-200) 4(-2175.98,-200) 5(-2075.98,-100) 6(-2175.98,-100) 7(-2075.98,0) 8(-2175.98,0) 9(-2075.98,100) 10(-2175.98,100) 11(-2075.98,200) 12(-2175.98,200) 13(-2075.98,300) 14(-2175.98,300) 15(-2075.98,400) 16(-2175.98,400)
Top Overlay:
  rectangle: -1407.48,7.87 -1281.5,226.38
  rectangle: -1407.48,-226.38 -1281.5,-7.87
  rectangle: -1261.81,7.87 -1135.83,226.38
  rectangle: -1261.81,-226.38 -1135.83,-7.87
  rectangle: -1116.14,7.87 -990.16,226.38
  rectangle: -1116.14,-226.38 -990.16,-7.87
  rectangle: -970.47,7.87 -844.49,226.38
  rectangle: -970.47,-226.38 -844.49,-7.87
  rectangle: -824.8,7.87 -698.82,226.38
  rectangle: -824.8,-226.38 -698.82,-7.87
  rectangle: -679.13,7.87 -553.15,226.38
  rectangle: -679.13,-226.38 -553.15,-7.87
  rectangle: -533.46,7.87 -407.48,226.38
  rectangle: -533.46,-226.38 -407.48,-7.87
  rectangle: -387.8,7.87 -261.81,226.38
  rectangle: -387.8,-226.38 -261.81,-7.87
  rectangle: -242.13,7.87 -116.14,226.38
  rectangle: -242.13,-226.38 -116.14,-7.87
  rectangle: -96.46,7.87 29.53,226.38
  rectangle: -96.46,-226.38 29.53,-7.87
  rectangle: 49.21,7.87 175.2,226.38
  rectangle: 49.21,-226.38 175.2,-7.87
  rectangle: 194.88,7.87 320.87,226.38
  rectangle: 194.88,-226.38 320.87,-7.87
  rectangle: 340.55,7.87 466.54,226.38
  rectangle: 340.55,-226.38 466.54,-7.87
  rectangle: 486.22,7.87 612.2,226.38
  rectangle: 486.22,-226.38 612.2,-7.87
  rectangle: 631.89,7.87 757.87,226.38
  rectangle: 631.89,-226.38 757.87,-7.87
  rectangle: 777.56,7.87 903.54,226.38
  rectangle: 777.56,-226.38 903.54,-7.87
  rectangle: 923.23,7.87 1049.21,226.38
  rectangle: 923.23,-226.38 1049.21,-7.87
  rectangle: 1068.9,7.87 1194.88,226.38
  rectangle: 1068.9,-226.38 1194.88,-7.87
  rectangle: 1214.57,7.87 1340.55,226.38
  rectangle: 1214.57,-226.38 1340.55,-7.87
  rectangle: 1360.24,7.87 1486.22,226.38
  rectangle: 1360.24,-226.38 1486.22,-7.87
  lines w8: -2279.53,-724.41 2279.53,-724.41 2279.53,724.41 -2279.53,724.41 -2279.53,-724.41 ; -1751.97,-610.24 1830.71,-610.24 1830.71,610.24 -1751.97,610.24 -1751.97,-610.24 ; -1590.55,-360.24 1669.29,-360.24 1669.29,360.24 -1590.55,360.24 -1590.55,-360.24